# Altium schematic symbol library purchasedModules.SchLib: 5 symbols
Pins are listed as number, name and electrical type; pins without a type are passive.

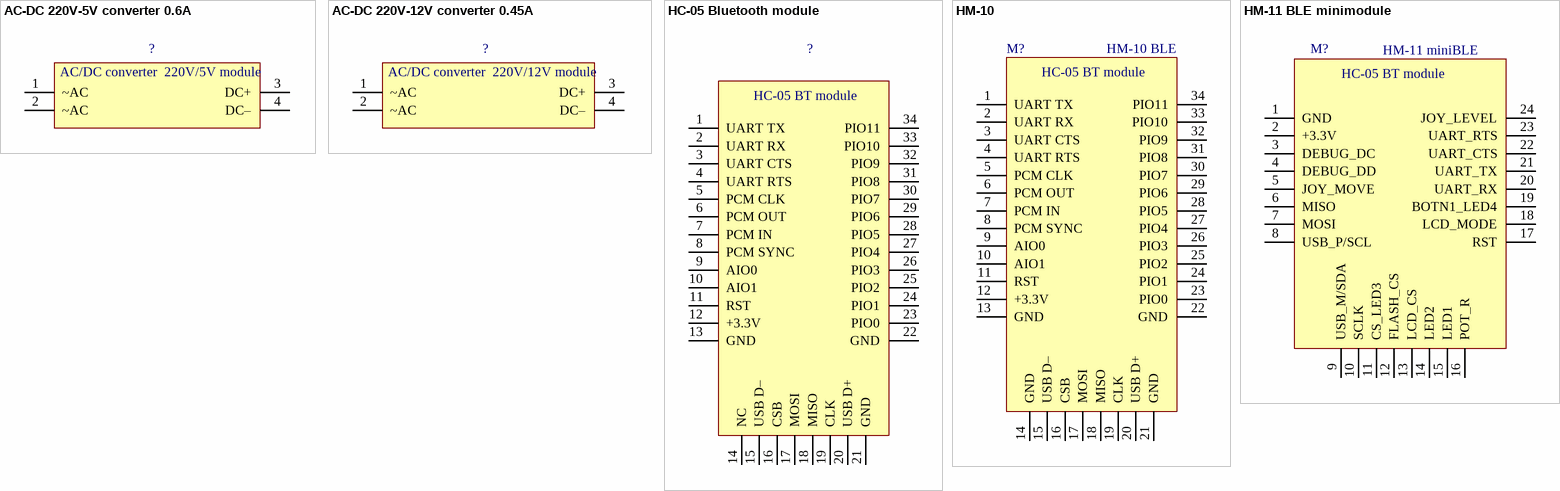
[diagram p0: symbols AC-DC 220V-5V converter 0.6A to HM-11 BLE minimodule]

## AC-DC 220V-5V converter 0.6A
designator ?  (value not drawn)
Chinese power supply module
footprint 2PinsPower (AC-DC 220V-5V converter 0.6A)
pins: 1 ~AC, 2 ~AC, 3 DC+, 4 DC–
text: AC/DC converter  220V/5V module

## AC-DC 220V-12V converter 0.45A
designator ?  (value not drawn)
Chinese power supply
footprint 2PinsPower (AC-DC 220V-5V converter 0.6A)
pins: 1 ~AC, 2 ~AC, 3 DC+, 4 DC–
text: AC/DC converter  220V/12V module

## HC-05 Bluetooth module
designator ?  (value not drawn)
Chinese bluetooth module 3.3V
footprint HC-05 Bluetooth module (HC-05 chinese module)
pins: 1 UART TX, 2 UART RX, 3 UART CTS, 4 UART RTS, 5 PCM CLK, 6 PCM OUT, 7 PCM IN, 8 PCM SYNC, 9 AIO0, 10 AIO1, 11 RST, 12 +3.3V, 13 GND, 14 NC, 15 USB D–, 16 CSB, 17 MOSI, 18 MISO, 19 CLK, 20 USB D+, 21 GND, 22 GND, 23 PIO0, 24 PIO1, 25 PIO2, 26 PIO3, 27 PIO4, 28 PIO5, 29 PIO6, 30 PIO7, 31 PIO8, 32 PIO9, 33 PIO10, 34 PIO11
text: HC-05 BT module

## HM-10
designator M?, comment HM-10 BLE
HM-10 BLE module  cc2540
footprint HM-10 BLE (HM-10 BLE module)
pins: 1 UART TX, 2 UART RX, 3 UART CTS, 4 UART RTS, 5 PCM CLK, 6 PCM OUT, 7 PCM IN, 8 PCM SYNC, 9 AIO0, 10 AIO1, 11 RST, 12 +3.3V, 13 GND, 14 GND, 15 USB D–, 16 CSB, 17 MOSI, 18 MISO, 19 CLK, 20 USB D+, 21 GND, 22 GND, 23 PIO0, 24 PIO1, 25 PIO2, 26 PIO3, 27 PIO4, 28 PIO5, 29 PIO6, 30 PIO7, 31 PIO8, 32 PIO9, 33 PIO10, 34 PIO11
text: HC-05 BT module

## HM-11 BLE minimodule
designator M?, comment HM-11 miniBLE
HM-11 BLE minimodule cc2540
footprint HM-11 BLE (HM-11 BLE module)
pins: 1 GND, 2 +3.3V, 3 DEBUG_DC, 4 DEBUG_DD, 5 JOY_MOVE, 6 MISO, 7 MOSI, 8 USB_P/SCL, 9 USB_M/SDA, 10 SCLK, 11 CS_LED3, 12 FLASH_CS, 13 LCD_CS, 14 LED2, 15 LED1, 16 POT_R, 17 RST, 18 LCD_MODE, 19 BOTN1_LED4, 20 UART_RX, 21 UART_TX, 22 UART_CTS, 23 UART_RTS, 24 JOY_LEVEL
text: HC-05 BT module